# Altium footprint library MS561.PcbLib: 1 footprints
Each footprint in its own frame and in the unit in brackets; x right, y up, seen from the top. Pads: shape width x height; smd on the part's side, far side on the other; paste and mask are expansions set on the pad; w line width, h text height; cw(c..) or ccw(c..) is an arc to the next point about the centre after c.
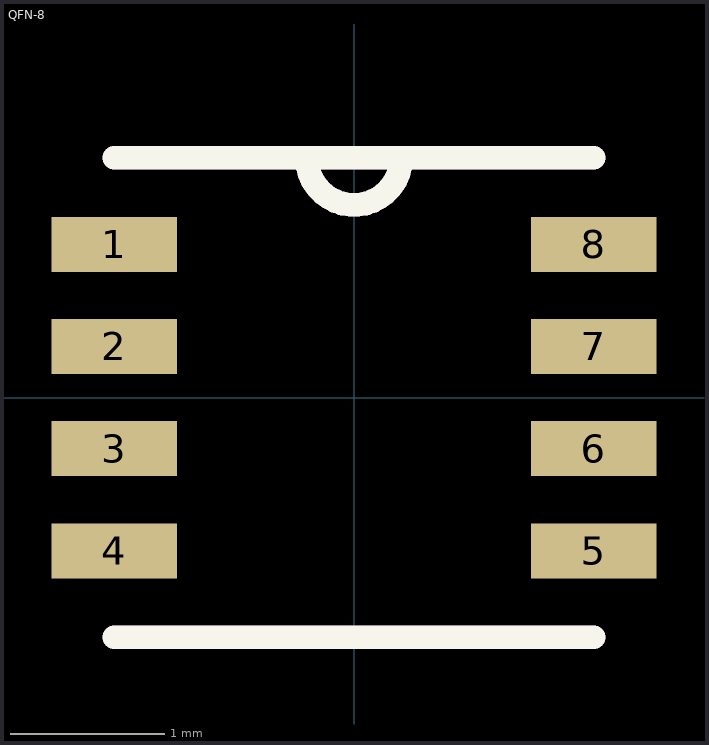
[diagram p0: the footprint, top view; thin cyan lines are the x and y axes]

## QFN-8 [mil]
pads (8):
  rect 32x14 smd paste-1000 mask-1000: 1(-61,39) 2(-61,13) 3(-61,-13) 4(-61,-39) 5(61,-39) 6(61,-13) 7(61,13) 8(61,39)
Top Overlay:
  lines w6: -61,-61 61,-61 ; -61,61 -12,61 ; 61,61 12,61 ; -12,61 ccw(c0,61) 12,61 ; -12,61 12,61
Top Paste:
  region: -77,32 -45,32 -45,46 -77,46
  region: -77,6 -45,6 -45,20 -77,20
  region: -77,-20 -45,-20 -45,-6 -77,-6
  region: -77,-46 -45,-46 -45,-32 -77,-32
  region: 45,-46 77,-46 77,-32 45,-32
  region: 45,-20 77,-20 77,-6 45,-6
  region: 45,6 77,6 77,20 45,20
  region: 45,32 77,32 77,46 45,46
Top Solder:
  region: -80.94,28.06 -41.06,28.06 -41.06,49.94 -80.94,49.94
  region: -80.94,2.06 -41.06,2.06 -41.06,23.94 -80.94,23.94
  region: -80.94,-23.94 -41.06,-23.94 -41.06,-2.06 -80.94,-2.06
  region: -80.94,-49.94 -41.06,-49.94 -41.06,-28.06 -80.94,-28.06
  region: 41.06,-49.94 80.94,-49.94 80.94,-28.06 41.06,-28.06
  region: 41.06,-23.94 80.94,-23.94 80.94,-2.06 41.06,-2.06
  region: 41.06,2.06 80.94,2.06 80.94,23.94 41.06,23.94
  region: 41.06,28.06 80.94,28.06 80.94,49.94 41.06,49.94
Mechanical 1:
  lines w6: -61,-61 61,-61 ; -61,61 -12,61 ; 61,61 12,61 ; -12,61 ccw(c0,61) 12,61 ; -12,61 12,61